# Altium footprint library SolarNode.PcbLib: 76 footprints (part 5 of 5)
Each footprint in its own frame and in the unit in brackets; x right, y up, seen from the top. Pads: shape width x height; smd on the part's side, far side on the other; paste and mask are expansions set on the pad; w line width, h text height; cw(c..) or ccw(c..) is an arc to the next point about the centre after c.
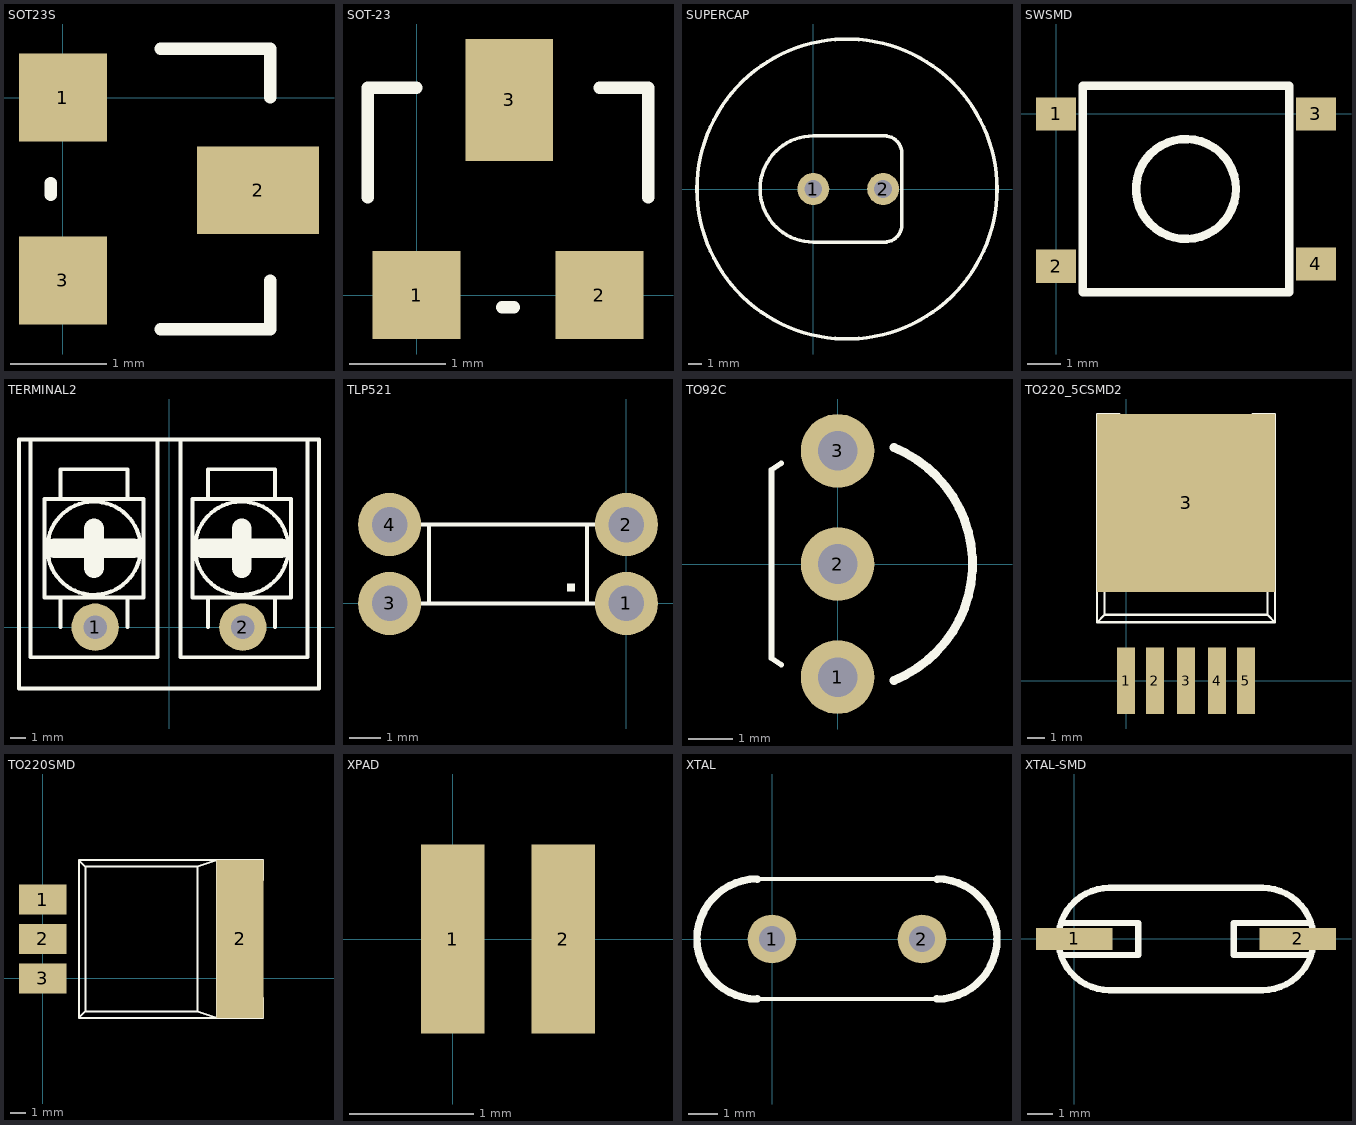
[diagram p4: the footprints below, top view; thin cyan lines are the x and y axes]

## SOT23S [mil]
pads (3):
  rect 36x36 smd: 1(0,0) 3(0,-75)
  rect 50x36 smd: 2(80,-38)
Top Overlay:
  lines w5: -5,-40 -5,-35 ; 40,-95 85,-95 85,-75 ; 40,20 85,20 85,0

## SOT-23 [mil]
pads (3):
  rect 36x36 smd: 1(0,0) 2(75,0)
  rect 36x50 smd: 3(38,80)
Top Overlay:
  lines w5: -20,40 -20,85 0,85 ; 35,-5 40,-5 ; 75,85 95,85 95,40

## SUPERCAP [mil] "EECF5R5U155"
pads (2):
  round 90 hole 50: 1(0,0) 2(196.85,0)
Top Overlay:
  circle w10: c95,0 r423.23
  lines w10: 0,-150 cw(c0,0) 0,150 200,150 cw(c200,100) 250,100 250,-100 cw(c200,-100) 200,-150 0,-150

## SWSMD [mm] "KAN0647-0312B"
pads (4):
  rect 1.2x1 smd: 1(0,0) 2(0,-4.572) 3(7.8,0) 4(7.8,-4.5)
Top Overlay:
  circle w0.254: c3.9,-2.25 r1.5
  lines w0.254: 0.8,-5.35 7,-5.35 7,0.85 0.8,0.85 0.8,-5.35

## TERMINAL2 [mil] "9.5mm 2 terminal block connnetor - screw M3"
pads (2):
  round 120 hole 60: 1(-187.01,0) 2(187.01,0)
Top Overlay:
  circle w10: c184.02,200 r118.11
  circle w10: c-190,200 r118.11
  lines w10: -350.47,475 -350.47,-76.26 -29.53,-76.26 -29.53,475 ; -275,0 -275,75 ; -275,325 -275,400 -105,400 -105,325 ; -190,150 -190,250 ; -105,0 -105,75 ; 29.53,475 29.53,-76.26 350.47,-76.26 350.47,475 ; 99.02,0 99.02,75 ; 99.02,325 99.02,400 269.02,400 269.02,325 ; 184.02,150 184.02,250 ; 269.02,0 269.02,75 ; -380,-155 -380,475 380,475 380,-155 -380,-155 ; -315,75 -315,325 -65,325 -65,75 -315,75 ; 59.02,75 309.02,75 309.02,325 59.02,325 59.02,75
  lines w50: -290,200 -90,200 ; -190,150 -190,250 ; 84.02,200 284.02,200 ; 184.02,150 184.02,250

## TLP521 [mil]
pads (4):
  round 80 hole 45: 1(0,0) 2(0,100) 3(-300,0) 4(-300,100)
Top Overlay:
  region: -65,25 -75,25 -75,15 -65,15
  lines w5: -270,0 -50,0 ; -270,100 -250,100 ; -250,0 -250,100 ; -30,0 -50,0 ; -30,100 -50,100 ; -250,100 -50,100 ; -50,0 -50,100

## TO92C [mil]
pads (3):
  round 65 hole 35: 1(0,-100) 2(0,0) 3(0,100)
Top Overlay:
  lines w5: -49.71,-89.08 -58.33,-83.33 -58.33,83.33 -49.71,89.08
  lines w7.87: 49.85,-102.76 ccw(c8.33,0) 49.85,102.76

## TO220_5CSMD2 [mil]
pads (6):
  rect 40x150 smd: 1(0,0) 2(65,0) 3(135,0) 4(205,0) 5(270,0)
  rect 400x400 smd: 3(135,400)
Top Overlay:
  lines w5: -65,133.33 -65,600 -15,600 ; 285,600 335,600 335,133.33 ; -65,131.67 335,131.67 ; -65,131.67 335,131.67 ; -65,131.67 -48.33,148.33 ; -48.33,148.33 318.33,148.33 ; -48.33,148.33 -48.33,431.67 ; -48.33,431.67 318.33,431.67 ; -48.33,431.67 -65,481.67 335,481.67 318.33,431.67 ; 318.33,148.33 318.33,431.67 ; 318.33,148.33 335,131.67

## TO220SMD [mil]
pads (4):
  rect 120x75 smd: 1(0,200) 2(0,100) 3(0,0)
  rect 120x400 smd: 2(500,100)
Top Overlay:
  lines w5: 558.33,-50 558.33,-100 91.67,-100 ; 558.33,250 558.33,300 91.67,300 ; 91.67,-100 108.33,-83.33 ; 91.67,-100 91.67,300 ; 91.67,300 108.33,283.33 ; 108.33,-83.33 108.33,283.33 ; 108.33,-83.33 391.67,-83.33 ; 108.33,283.33 391.67,283.33 ; 391.67,-83.33 391.67,283.33 ; 391.67,-83.33 441.67,-100 441.67,300 391.67,283.33

## XPAD [mil]
pads (2):
  rect 20x60 smd: 1(0,0) 2(35,0)

## XTAL [mil]
pads (2):
  round 65 hole 35: 1(0,0) 2(200,0)
Top Overlay:
  lines w5: -20,-80 220,-80 ; -20,80 220,80
  lines w10: -20,-80 cw(c-20,0) -20,80 ; 220,-80 ccw(c220,0) 220,80 cw(c220,0) 220,-80

## XTAL-SMD [mil]
pads (2):
  rect 120x35 smd: 1(0,0) 2(350,0)
Top Overlay:
  lines w10: -20,-25 100,-25 100,25 -20,25 ; 370,-25 250,-25 250,25 370,25 ; 295,-80 ccw(c295,0) 295,80 ; 295,-80 ccw(c295,0) 295,80 ; 295,-80 55,-80 cw(c55,0) 55,80 295,80